# EAGLE library part MMBZ5245BTS-7-F (library HyTechDevices-ltc4421 components)
15V Zener Diode Array 3 Independent with SOT363 footprint. Datasheet <https://www.mouser.com/datasheet/2/115/ds30184-1382386.pdf>
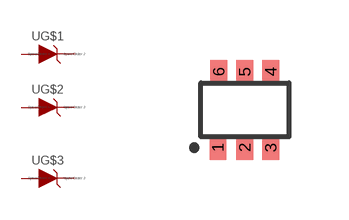
[diagram p25: symbol with the pads of SOT363; footprint SOT363]

Designator prefix -; gates G$1=DIODE_ZENER G$2=DIODE_ZENER G$3=DIODE_ZENER

## MMBZ5245BTS-7-F (VOLTAGE: 15V)  [SOT363]
1  G$1:A  pas
2  G$2:A  pas
3  G$3:A  pas
4  G$3:C  pas
5  G$2:C  pas
6  G$1:C  pas

## Footprint SOT363 (pad centres in mm)
SOT363 Datasheet <https://www.diodes.com/assets/Package-Files/SOT363.pdf>
smd 0.42 x 0.6: 1 -0.673,-0.95; 2 0,-0.95; 3 0.65,-0.95; 4 0.65,0.95; 5 0,0.95; 6 -0.65,0.95